# EAGLE library part 750510173 (library wurth_electronics_midcom_inc_v2-1)
Package Style: EP7 Mounting: SMD Pins: 8 pins Bobbin: 070-4436 Best pinouts for production vary per application. Please contact Wurth Electronics Midcom, Inc. for assistance with your custom design. Website: Wurth Electronics Midcom <http://www.we-online.com/midcom> Contact us Wurth Electronics Midcom, Inc. 121 Airport Dr. Watertown, SD 57201 Phone: (605) 886-4385 Fax: (605) 886-4486 E-Mail: midcom@we-online.com
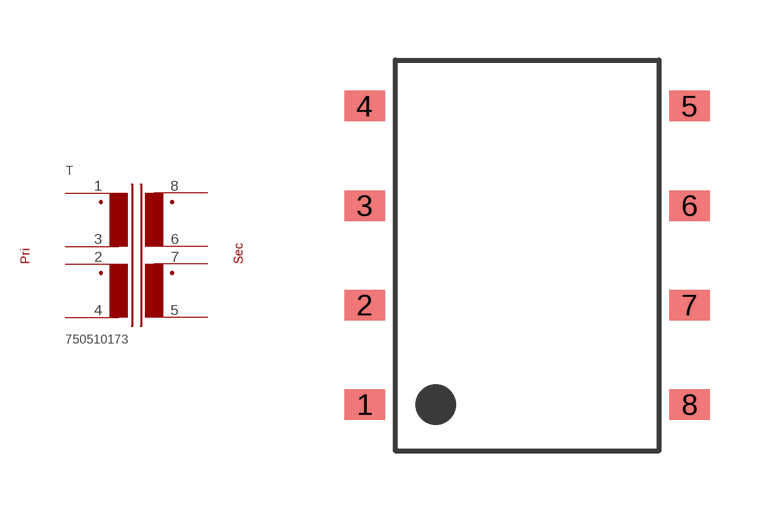
[diagram p292: symbol with the pads of EP7_SMD_H_8PIN_(4436); footprint EP7_SMD_H_8PIN_(4436)]

Designator prefix T

## 750510173  [EP7_SMD_H_8PIN_(4436)]
1  1  pas
2  2  pas
3  3  pas
4  4  pas
5  5  pas
6  6  pas
7  7  pas
8  8  pas

## Footprint EP7_SMD_H_8PIN_(4436) (pad centres in mm)
Package Style: EP7 Mounting: SMD Pins: 8 Bobbin: 070-4436
smd 1.016 x 0.762: 1 -4.064,-3.734; 2 -4.064,-1.245; 3 -4.064,1.245; 4 -4.064,3.734; 5 4.064,3.734; 6 4.064,1.245; 7 4.064,-1.245; 8 4.064,-3.734